# Altium integrated library Analog Devices Operational Amplifiers.IntLib: 2102 symbols (part 59 of 70)
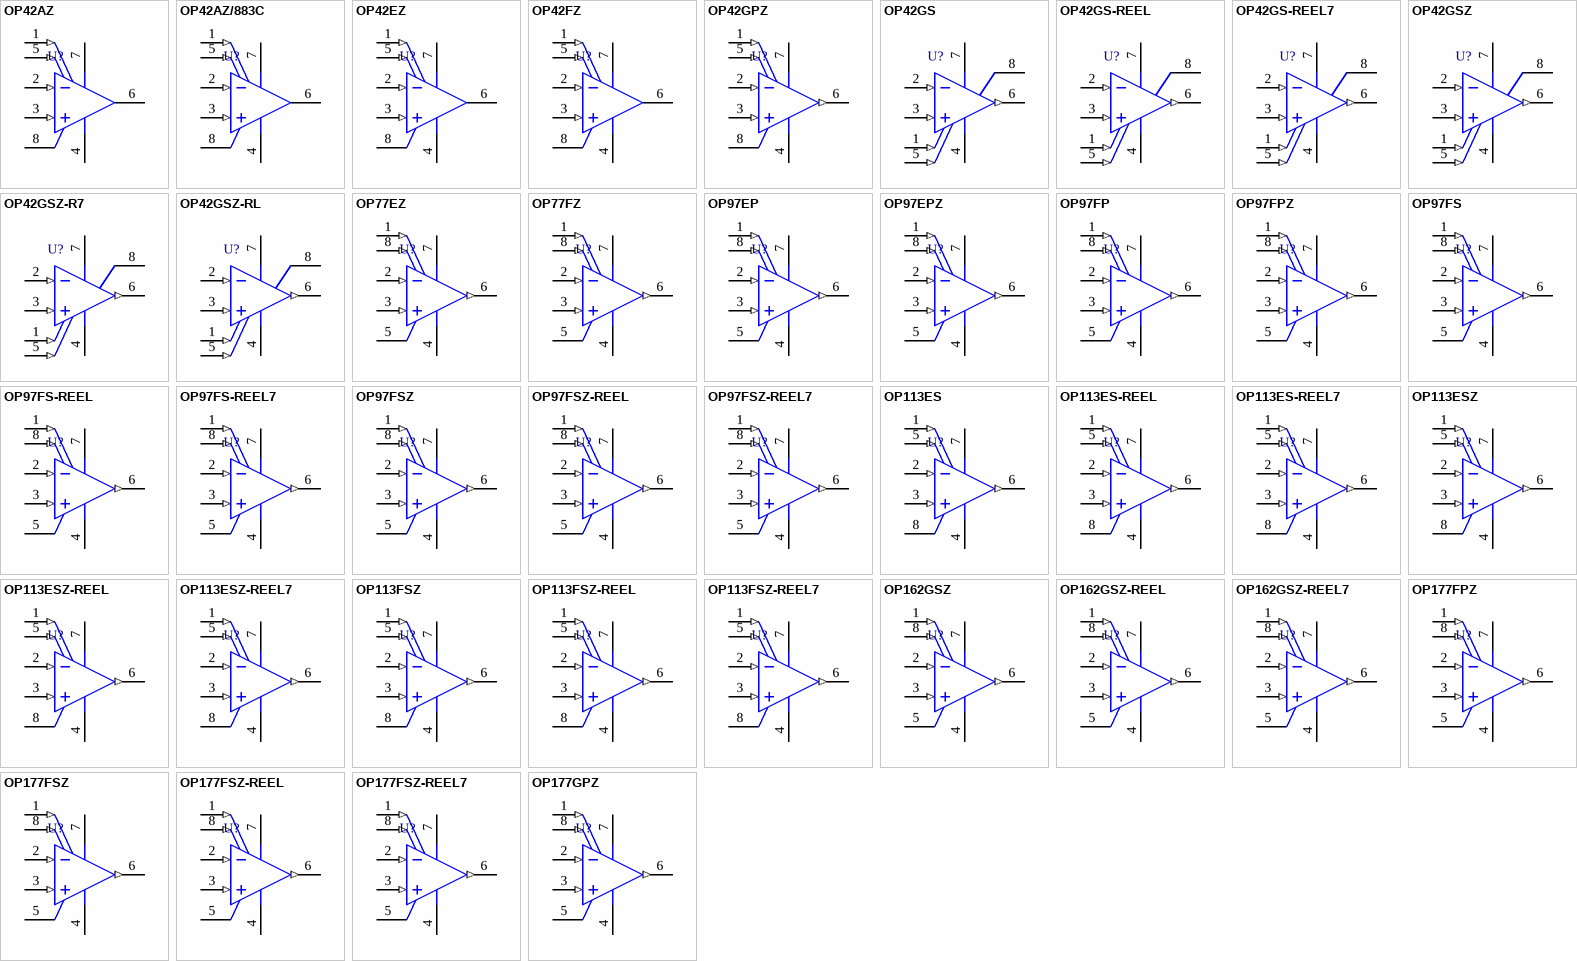
[diagram p172: symbols OP42AZ to OP177GPZ]

## OP97FS-REEL
designator U?
Single Channel Very Low Bias Current Operational Amplifier, 900 KHz BW, 200 mV/us SR, Industrial, 8-pin SOIC (R-8), Reel; Generic Part Number: OP97; Manufacturer: Analog Devices; PartNumber: OP97FS-REEL; Amplifiers Per Package: 1; Input Bias Current: 30pA; Input Offset Voltage: 30uV; Iq/Amp: 600uA; Small Signal Bandwidth: 900KHz; V Span Max: 40V; V Span Min: 4V; DatasheetVersion: Rev. G; PackageVersion: 060506-A; PackageReference: R-8; PackageDescription: 8-Pin Standard Small Outline Package, Body 3.9 x 4.9 mm, Pitch 1.27 mm; Supplier 1: Digi-Key; Supplier Part Number 1: OP97FS-REEL-ND; Supplier 2: Newark; Supplier Part Number 2: 13B4701; Packing: Reel; Slew Rate: 200mV/us; Mounting Technology: Surface Mount; Code_JEDEC: MS-012-AA; ComponentLink1Description: Manufacturer URL; ComponentLink1URL: http://www.analog.com/en/index.html; ComponentLink2Description: Datasheet; ComponentLink2URL: http://www.analog.com/static/imported-files/data_sheets/OP97.pdf; ComponentLink3Description: Package Specification; ComponentLink3URL: http://www.analog.com/static/imported-files/packages/PKG_PDF/SOIC_Narrow%20(R)/R_8.pdf
footprint ADI-R-8_N (SOIC, 8-Leads, Body 4.9x3.9mm, Pitch 1.27mm, IPC Medium Density)
footprint ADI-R-8_L (SOIC, 8-Leads, Body 4.9x3.9mm, Pitch 1.27mm, IPC High Density)
footprint ADI-R-8_M (SOIC, 8-Leads, Body 4.9x3.9mm, Pitch 1.27mm, IPC Low Density)
pins: 1 NULL (in), 2 -IN (in), 3 +IN (in), 4 -V (power), 5 OVER COMP, 6 OUT (out), 7 +V (power), 8 NULL (in)

## OP97FS-REEL7
designator U?
Single Channel Very Low Bias Current Operational Amplifier, 900 KHz BW, 200 mV/us SR, Industrial, 8-pin SOIC (R-8), Reel; Generic Part Number: OP97; Manufacturer: Analog Devices; PartNumber: OP97FS-REEL7; Amplifiers Per Package: 1; Input Bias Current: 30pA; Input Offset Voltage: 30uV; Iq/Amp: 600uA; Small Signal Bandwidth: 900KHz; V Span Max: 40V; V Span Min: 4V; DatasheetVersion: Rev. G; PackageVersion: 060506-A; PackageReference: R-8; PackageDescription: 8-Pin Standard Small Outline Package, Body 3.9 x 4.9 mm, Pitch 1.27 mm; Supplier 1: Digi-Key; Supplier Part Number 1: OP97FS-REEL7TR-ND; Supplier 2: Digi-Key; Supplier Part Number 2: OP97FS-REEL7CT-ND; Supplier 3: Digi-Key; Supplier Part Number 3: OP97FS-REEL7DKR-ND; Supplier 4: Newark; Supplier Part Number 4: 13B4702; Packing: Reel; Slew Rate: 200mV/us; Mounting Technology: Surface Mount; Code_JEDEC: MS-012-AA; ComponentLink1Description: Manufacturer URL; ComponentLink1URL: http://www.analog.com/en/index.html; ComponentLink2Description: Datasheet; ComponentLink2URL: http://www.analog.com/static/imported-files/data_sheets/OP97.pdf; ComponentLink3Description: Package Specification; ComponentLink3URL: http://www.analog.com/static/imported-files/packages/PKG_PDF/SOIC_Narrow%20(R)/R_8.pdf
footprint ADI-R-8_N (SOIC, 8-Leads, Body 4.9x3.9mm, Pitch 1.27mm, IPC Medium Density)
footprint ADI-R-8_L (SOIC, 8-Leads, Body 4.9x3.9mm, Pitch 1.27mm, IPC High Density)
footprint ADI-R-8_M (SOIC, 8-Leads, Body 4.9x3.9mm, Pitch 1.27mm, IPC Low Density)
pins: 1 NULL (in), 2 -IN (in), 3 +IN (in), 4 -V (power), 5 OVER COMP, 6 OUT (out), 7 +V (power), 8 NULL (in)

## OP97FSZ
designator U?
Single Channel Very Low Bias Current Operational Amplifier, 900 KHz BW, 200 mV/us SR, Industrial, 8-pin SOIC (R-8), Tube; Generic Part Number: OP97; Manufacturer: Analog Devices; PartNumber: OP97FSZ; Amplifiers Per Package: 1; Input Bias Current: 30pA; Input Offset Voltage: 30uV; Iq/Amp: 600uA; Small Signal Bandwidth: 900KHz; V Span Max: 40V; V Span Min: 4V; DatasheetVersion: Rev. G; PackageVersion: 060506-A; PackageReference: R-8; PackageDescription: 8-Pin Standard Small Outline Package, Body 3.9 x 4.9 mm, Pitch 1.27 mm; Supplier 1: Digi-Key; Supplier Part Number 1: OP97FSZ-ND; Supplier 2: Farnell; Supplier Part Number 2: 9426310; Supplier 3: Newark; Supplier Part Number 3: 19M1037; Packing: Tube; Slew Rate: 200mV/us; Mounting Technology: Surface Mount; Code_JEDEC: MS-012-AA; ComponentLink1Description: Manufacturer URL; ComponentLink1URL: http://www.analog.com/en/index.html; ComponentLink2Description: Datasheet; ComponentLink2URL: http://www.analog.com/static/imported-files/data_sheets/OP97.pdf; ComponentLink3Description: Package Specification; ComponentLink3URL: http://www.analog.com/static/imported-files/packages/PKG_PDF/SOIC_Narrow%20(R)/R_8.pdf
footprint ADI-R-8_N (SOIC, 8-Leads, Body 4.9x3.9mm, Pitch 1.27mm, IPC Medium Density)
footprint ADI-R-8_L (SOIC, 8-Leads, Body 4.9x3.9mm, Pitch 1.27mm, IPC High Density)
footprint ADI-R-8_M (SOIC, 8-Leads, Body 4.9x3.9mm, Pitch 1.27mm, IPC Low Density)
pins: 1 NULL (in), 2 -IN (in), 3 +IN (in), 4 -V (power), 5 OVER COMP, 6 OUT (out), 7 +V (power), 8 NULL (in)

## OP97FSZ-REEL
designator U?
Single Channel Very Low Bias Current Operational Amplifier, 900 KHz BW, 200 mV/us SR, Industrial, 8-pin SOIC (R-8), Reel; Generic Part Number: OP97; Manufacturer: Analog Devices; PartNumber: OP97FSZ-REEL; Amplifiers Per Package: 1; Input Bias Current: 30pA; Input Offset Voltage: 30uV; Iq/Amp: 600uA; Small Signal Bandwidth: 900KHz; V Span Max: 40V; V Span Min: 4V; DatasheetVersion: Rev. G; PackageVersion: 060506-A; PackageReference: R-8; PackageDescription: 8-Pin Standard Small Outline Package, Body 3.9 x 4.9 mm, Pitch 1.27 mm; Supplier 1: Digi-Key; Supplier Part Number 1: OP97FSZ-REELTR-ND; Supplier 2: Digi-Key; Supplier Part Number 2: OP97FSZ-REELCT-ND; Supplier 3: Digi-Key; Supplier Part Number 3: OP97FSZ-REELDKR-ND; Packing: Reel; Slew Rate: 200mV/us; Mounting Technology: Surface Mount; Code_JEDEC: MS-012-AA; ComponentLink1Description: Manufacturer URL; ComponentLink1URL: http://www.analog.com/en/index.html; ComponentLink2Description: Datasheet; ComponentLink2URL: http://www.analog.com/static/imported-files/data_sheets/OP97.pdf; ComponentLink3Description: Package Specification; ComponentLink3URL: http://www.analog.com/static/imported-files/packages/PKG_PDF/SOIC_Narrow%20(R)/R_8.pdf
footprint ADI-R-8_N (SOIC, 8-Leads, Body 4.9x3.9mm, Pitch 1.27mm, IPC Medium Density)
footprint ADI-R-8_L (SOIC, 8-Leads, Body 4.9x3.9mm, Pitch 1.27mm, IPC High Density)
footprint ADI-R-8_M (SOIC, 8-Leads, Body 4.9x3.9mm, Pitch 1.27mm, IPC Low Density)
pins: 1 NULL (in), 2 -IN (in), 3 +IN (in), 4 -V (power), 5 OVER COMP, 6 OUT (out), 7 +V (power), 8 NULL (in)

## OP97FSZ-REEL7
designator U?
Single Channel Very Low Bias Current Operational Amplifier, 900 KHz BW, 200 mV/us SR, Industrial, 8-pin SOIC (R-8), Reel; Generic Part Number: OP97; Manufacturer: Analog Devices; PartNumber: OP97FSZ-REEL7; Amplifiers Per Package: 1; Input Bias Current: 30pA; Input Offset Voltage: 30uV; Iq/Amp: 600uA; Small Signal Bandwidth: 900KHz; V Span Max: 40V; V Span Min: 4V; DatasheetVersion: Rev. G; PackageVersion: 060506-A; PackageReference: R-8; PackageDescription: 8-Pin Standard Small Outline Package, Body 3.9 x 4.9 mm, Pitch 1.27 mm; Supplier 1: Digi-Key; Supplier Part Number 1: OP97FSZ-REEL7TR-ND; Supplier 2: Digi-Key; Supplier Part Number 2: OP97FSZ-REEL7CT-ND; Supplier 3: Digi-Key; Supplier Part Number 3: OP97FSZ-REEL7DKR-ND; Supplier 4: Newark; Supplier Part Number 4: 88H0687; Packing: Reel; Slew Rate: 200mV/us; Mounting Technology: Surface Mount; Code_JEDEC: MS-012-AA; ComponentLink1Description: Manufacturer URL; ComponentLink1URL: http://www.analog.com/en/index.html; ComponentLink2Description: Datasheet; ComponentLink2URL: http://www.analog.com/static/imported-files/data_sheets/OP97.pdf; ComponentLink3Description: Package Specification; ComponentLink3URL: http://www.analog.com/static/imported-files/packages/PKG_PDF/SOIC_Narrow%20(R)/R_8.pdf
footprint ADI-R-8_N (SOIC, 8-Leads, Body 4.9x3.9mm, Pitch 1.27mm, IPC Medium Density)
footprint ADI-R-8_L (SOIC, 8-Leads, Body 4.9x3.9mm, Pitch 1.27mm, IPC High Density)
footprint ADI-R-8_M (SOIC, 8-Leads, Body 4.9x3.9mm, Pitch 1.27mm, IPC Low Density)
pins: 1 NULL (in), 2 -IN (in), 3 +IN (in), 4 -V (power), 5 OVER COMP, 6 OUT (out), 7 +V (power), 8 NULL (in)

## OP113ES
designator U?
Single Channel Wide Bandwidth Operational Amplifier, 3.4 MHz BW, 1.2 V/us SR, Industrial, 8-pin SOIC (R-8), Tube; Generic Part Number: OP113; Manufacturer: Analog Devices; PartNumber: OP113ES; Amplifiers Per Package: 1; Input Bias Current: 600nA; Input Offset Voltage: 150uV; Iq/Amp: 3mA; Small Signal Bandwidth: 3.4MHz; V Span Max: 36V; V Span Min: 4V; DatasheetVersion: Rev. F; PackageVersion: 060506-A; PackageReference: R-8; PackageDescription: 8-Pin Standard Small Outline Package, Body 3.9 x 4.9 mm, Pitch 1.27 mm; Supplier 1: Digi-Key; Supplier Part Number 1: OP113ES-ND; Slew Rate: 1.2V/us; Mounting Technology: Surface Mount; Code_JEDEC: MS-012-AA; ComponentLink1Description: Manufacturer URL; ComponentLink1URL: http://www.analog.com/en/index.html; ComponentLink2Description: Datasheet; ComponentLink2URL: http://www.analog.com/static/imported-files/data_sheets/OP113_213_413.pdf; ComponentLink3Description: Package Specification; ComponentLink3URL: http://www.analog.com/static/imported-files/packages/PKG_PDF/SOIC_Narrow%20(R)/R_8.pdf
footprint ADI-R-8_N (SOIC, 8-Leads, Body 4.9x3.9mm, Pitch 1.27mm, IPC Medium Density)
footprint ADI-R-8_L (SOIC, 8-Leads, Body 4.9x3.9mm, Pitch 1.27mm, IPC High Density)
footprint ADI-R-8_M (SOIC, 8-Leads, Body 4.9x3.9mm, Pitch 1.27mm, IPC Low Density)
pins: 1 NULL (in), 2 -IN A (in), 3 +IN A (in), 4 -V (power), 5 NULL (in), 6 OUT A (out), 7 +V (power), 8 NC

## OP113ES-REEL
designator U?
Single Channel Wide Bandwidth Operational Amplifier, 3.4 MHz BW, 1.2 V/us SR, Industrial, 8-pin SOIC (R-8), Reel; Generic Part Number: OP113; Manufacturer: Analog Devices; PartNumber: OP113ES-REEL; Amplifiers Per Package: 1; Input Bias Current: 600nA; Input Offset Voltage: 150uV; Iq/Amp: 3mA; Small Signal Bandwidth: 3.4MHz; V Span Max: 36V; V Span Min: 4V; DatasheetVersion: Rev. F; PackageVersion: 060506-A; PackageReference: R-8; PackageDescription: 8-Pin Standard Small Outline Package, Body 3.9 x 4.9 mm, Pitch 1.27 mm; Supplier 1: Digi-Key; Supplier Part Number 1: OP113ES-REEL-ND; Supplier 2: Newark; Supplier Part Number 2: 09B8300; Slew Rate: 1.2V/us; Mounting Technology: Surface Mount; Code_JEDEC: MS-012-AA; ComponentLink1Description: Manufacturer URL; ComponentLink1URL: http://www.analog.com/en/index.html; ComponentLink2Description: Datasheet; ComponentLink2URL: http://www.analog.com/static/imported-files/data_sheets/OP113_213_413.pdf; ComponentLink3Description: Package Specification; ComponentLink3URL: http://www.analog.com/static/imported-files/packages/PKG_PDF/SOIC_Narrow%20(R)/R_8.pdf
footprint ADI-R-8_N (SOIC, 8-Leads, Body 4.9x3.9mm, Pitch 1.27mm, IPC Medium Density)
footprint ADI-R-8_L (SOIC, 8-Leads, Body 4.9x3.9mm, Pitch 1.27mm, IPC High Density)
footprint ADI-R-8_M (SOIC, 8-Leads, Body 4.9x3.9mm, Pitch 1.27mm, IPC Low Density)
pins: 1 NULL (in), 2 -IN A (in), 3 +IN A (in), 4 -V (power), 5 NULL (in), 6 OUT A (out), 7 +V (power), 8 NC

## OP113ES-REEL7
designator U?
Single Channel Wide Bandwidth Operational Amplifier, 3.4 MHz BW, 1.2 V/us SR, Industrial, 8-pin SOIC (R-8), Reel; Generic Part Number: OP113; Manufacturer: Analog Devices; PartNumber: OP113ES-REEL7; Amplifiers Per Package: 1; Input Bias Current: 600nA; Input Offset Voltage: 150uV; Iq/Amp: 3mA; Small Signal Bandwidth: 3.4MHz; V Span Max: 36V; V Span Min: 4V; DatasheetVersion: Rev. F; PackageVersion: 060506-A; PackageReference: R-8; PackageDescription: 8-Pin Standard Small Outline Package, Body 3.9 x 4.9 mm, Pitch 1.27 mm; Supplier 1: Digi-Key; Supplier Part Number 1: OP113ES-REEL7-ND; Supplier 2: Newark; Supplier Part Number 2: 09B8301; Slew Rate: 1.2V/us; Mounting Technology: Surface Mount; Code_JEDEC: MS-012-AA; ComponentLink1Description: Manufacturer URL; ComponentLink1URL: http://www.analog.com/en/index.html; ComponentLink2Description: Datasheet; ComponentLink2URL: http://www.analog.com/static/imported-files/data_sheets/OP113_213_413.pdf; ComponentLink3Description: Package Specification; ComponentLink3URL: http://www.analog.com/static/imported-files/packages/PKG_PDF/SOIC_Narrow%20(R)/R_8.pdf
footprint ADI-R-8_N (SOIC, 8-Leads, Body 4.9x3.9mm, Pitch 1.27mm, IPC Medium Density)
footprint ADI-R-8_L (SOIC, 8-Leads, Body 4.9x3.9mm, Pitch 1.27mm, IPC High Density)
footprint ADI-R-8_M (SOIC, 8-Leads, Body 4.9x3.9mm, Pitch 1.27mm, IPC Low Density)
pins: 1 NULL (in), 2 -IN A (in), 3 +IN A (in), 4 -V (power), 5 NULL (in), 6 OUT A (out), 7 +V (power), 8 NC

## OP113ESZ
designator U?
Single Channel Wide Bandwidth Operational Amplifier, 3.4 MHz BW, 1.2 V/us SR, Industrial, 8-pin SOIC (R-8), Tube; Generic Part Number: OP113; Manufacturer: Analog Devices; PartNumber: OP113ESZ; Amplifiers Per Package: 1; Input Bias Current: 600nA; Input Offset Voltage: 150uV; Iq/Amp: 3mA; Small Signal Bandwidth: 3.4MHz; V Span Max: 36V; V Span Min: 4V; DatasheetVersion: Rev. F; PackageVersion: 060506-A; PackageReference: R-8; PackageDescription: 8-Pin Standard Small Outline Package, Body 3.9 x 4.9 mm, Pitch 1.27 mm; Supplier 1: Digi-Key; Supplier Part Number 1: OP113ESZ-ND; Supplier 2: Farnell; Supplier Part Number 2: 1311373; Supplier 3: Newark; Supplier Part Number 3: 59K8759; Slew Rate: 1.2V/us; Mounting Technology: Surface Mount; Code_JEDEC: MS-012-AA; ComponentLink1Description: Manufacturer URL; ComponentLink1URL: http://www.analog.com/en/index.html; ComponentLink2Description: Datasheet; ComponentLink2URL: http://www.analog.com/static/imported-files/data_sheets/OP113_213_413.pdf; ComponentLink3Description: Package Specification; ComponentLink3URL: http://www.analog.com/static/imported-files/packages/PKG_PDF/SOIC_Narrow%20(R)/R_8.pdf
footprint ADI-R-8_N (SOIC, 8-Leads, Body 4.9x3.9mm, Pitch 1.27mm, IPC Medium Density)
footprint ADI-R-8_L (SOIC, 8-Leads, Body 4.9x3.9mm, Pitch 1.27mm, IPC High Density)
footprint ADI-R-8_M (SOIC, 8-Leads, Body 4.9x3.9mm, Pitch 1.27mm, IPC Low Density)
pins: 1 NULL (in), 2 -IN A (in), 3 +IN A (in), 4 -V (power), 5 NULL (in), 6 OUT A (out), 7 +V (power), 8 NC

## OP113ESZ-REEL
designator U?
Single Channel Wide Bandwidth Operational Amplifier, 3.4 MHz BW, 1.2 V/us SR, Industrial, 8-pin SOIC (R-8), Reel; Generic Part Number: OP113; Manufacturer: Analog Devices; PartNumber: OP113ESZ-REEL; Amplifiers Per Package: 1; Input Bias Current: 600nA; Input Offset Voltage: 150uV; Iq/Amp: 3mA; Small Signal Bandwidth: 3.4MHz; V Span Max: 36V; V Span Min: 4V; DatasheetVersion: Rev. F; PackageVersion: 060506-A; PackageReference: R-8; PackageDescription: 8-Pin Standard Small Outline Package, Body 3.9 x 4.9 mm, Pitch 1.27 mm; Supplier 1: Digi-Key; Supplier Part Number 1: OP113ESZ-REEL-ND; Slew Rate: 1.2V/us; Mounting Technology: Surface Mount; Code_JEDEC: MS-012-AA; ComponentLink1Description: Manufacturer URL; ComponentLink1URL: http://www.analog.com/en/index.html; ComponentLink2Description: Datasheet; ComponentLink2URL: http://www.analog.com/static/imported-files/data_sheets/OP113_213_413.pdf; ComponentLink3Description: Package Specification; ComponentLink3URL: http://www.analog.com/static/imported-files/packages/PKG_PDF/SOIC_Narrow%20(R)/R_8.pdf
footprint ADI-R-8_N (SOIC, 8-Leads, Body 4.9x3.9mm, Pitch 1.27mm, IPC Medium Density)
footprint ADI-R-8_L (SOIC, 8-Leads, Body 4.9x3.9mm, Pitch 1.27mm, IPC High Density)
footprint ADI-R-8_M (SOIC, 8-Leads, Body 4.9x3.9mm, Pitch 1.27mm, IPC Low Density)
pins: 1 NULL (in), 2 -IN A (in), 3 +IN A (in), 4 -V (power), 5 NULL (in), 6 OUT A (out), 7 +V (power), 8 NC

## OP113ESZ-REEL7
designator U?
Single Channel Wide Bandwidth Operational Amplifier, 3.4 MHz BW, 1.2 V/us SR, Industrial, 8-pin SOIC (R-8), Reel; Generic Part Number: OP113; Manufacturer: Analog Devices; PartNumber: OP113ESZ-REEL7; Amplifiers Per Package: 1; Input Bias Current: 600nA; Input Offset Voltage: 150uV; Iq/Amp: 3mA; Small Signal Bandwidth: 3.4MHz; V Span Max: 36V; V Span Min: 4V; DatasheetVersion: Rev. F; PackageVersion: 060506-A; PackageReference: R-8; PackageDescription: 8-Pin Standard Small Outline Package, Body 3.9 x 4.9 mm, Pitch 1.27 mm; Supplier 1: Digi-Key; Supplier Part Number 1: OP113ESZ-REEL7TR-ND; Supplier 2: Digi-Key; Supplier Part Number 2: OP113ESZ-REEL7CT-ND; Supplier 3: Digi-Key; Supplier Part Number 3: OP113ESZ-REEL7DKR-ND; Supplier 4: Newark; Supplier Part Number 4: 59K8761; Slew Rate: 1.2V/us; Mounting Technology: Surface Mount; Code_JEDEC: MS-012-AA; ComponentLink1Description: Manufacturer URL; ComponentLink1URL: http://www.analog.com/en/index.html; ComponentLink2Description: Datasheet; ComponentLink2URL: http://www.analog.com/static/imported-files/data_sheets/OP113_213_413.pdf; ComponentLink3Description: Package Specification; ComponentLink3URL: http://www.analog.com/static/imported-files/packages/PKG_PDF/SOIC_Narrow%20(R)/R_8.pdf
footprint ADI-R-8_N (SOIC, 8-Leads, Body 4.9x3.9mm, Pitch 1.27mm, IPC Medium Density)
footprint ADI-R-8_L (SOIC, 8-Leads, Body 4.9x3.9mm, Pitch 1.27mm, IPC High Density)
footprint ADI-R-8_M (SOIC, 8-Leads, Body 4.9x3.9mm, Pitch 1.27mm, IPC Low Density)
pins: 1 NULL (in), 2 -IN A (in), 3 +IN A (in), 4 -V (power), 5 NULL (in), 6 OUT A (out), 7 +V (power), 8 NC

## OP113FSZ
designator U?
Single Channel Wide Bandwidth Operational Amplifier, 3.4 MHz BW, 1.2 V/us SR, Industrial, 8-pin SOIC (R-8), Tube; Generic Part Number: OP113; Manufacturer: Analog Devices; PartNumber: OP113FSZ; Amplifiers Per Package: 1; Input Bias Current: 600nA; Input Offset Voltage: 150uV; Iq/Amp: 3mA; Small Signal Bandwidth: 3.4MHz; V Span Max: 36V; V Span Min: 4V; DatasheetVersion: Rev. F; PackageVersion: 060506-A; PackageReference: R-8; PackageDescription: 8-Pin Standard Small Outline Package, Body 3.9 x 4.9 mm, Pitch 1.27 mm; Supplier 1: Digi-Key; Supplier Part Number 1: OP113FSZ-ND; Supplier 2: Farnell; Supplier Part Number 2: 2102503; Supplier 3: Newark; Supplier Part Number 3: 19M8975; Slew Rate: 1.2V/us; Mounting Technology: Surface Mount; Code_JEDEC: MS-012-AA; ComponentLink1Description: Manufacturer URL; ComponentLink1URL: http://www.analog.com/en/index.html; ComponentLink2Description: Datasheet; ComponentLink2URL: http://www.analog.com/static/imported-files/data_sheets/OP113_213_413.pdf; ComponentLink3Description: Package Specification; ComponentLink3URL: http://www.analog.com/static/imported-files/packages/PKG_PDF/SOIC_Narrow%20(R)/R_8.pdf
footprint ADI-R-8_N (SOIC, 8-Leads, Body 4.9x3.9mm, Pitch 1.27mm, IPC Medium Density)
footprint ADI-R-8_L (SOIC, 8-Leads, Body 4.9x3.9mm, Pitch 1.27mm, IPC High Density)
footprint ADI-R-8_M (SOIC, 8-Leads, Body 4.9x3.9mm, Pitch 1.27mm, IPC Low Density)
pins: 1 NULL (in), 2 -IN A (in), 3 +IN A (in), 4 -V (power), 5 NULL (in), 6 OUT A (out), 7 +V (power), 8 NC

## OP113FSZ-REEL
designator U?
Single Channel Wide Bandwidth Operational Amplifier, 3.4 MHz BW, 1.2 V/us SR, Industrial, 8-pin SOIC (R-8), Reel; Generic Part Number: OP113; Manufacturer: Analog Devices; PartNumber: OP113FSZ-REEL; Amplifiers Per Package: 1; Input Bias Current: 600nA; Input Offset Voltage: 150uV; Iq/Amp: 3mA; Small Signal Bandwidth: 3.4MHz; V Span Max: 36V; V Span Min: 4V; DatasheetVersion: Rev. F; PackageVersion: 060506-A; PackageReference: R-8; PackageDescription: 8-Pin Standard Small Outline Package, Body 3.9 x 4.9 mm, Pitch 1.27 mm; Supplier 1: Digi-Key; Supplier Part Number 1: OP113FSZ-REEL-ND; Slew Rate: 1.2V/us; Mounting Technology: Surface Mount; Code_JEDEC: MS-012-AA; ComponentLink1Description: Manufacturer URL; ComponentLink1URL: http://www.analog.com/en/index.html; ComponentLink2Description: Datasheet; ComponentLink2URL: http://www.analog.com/static/imported-files/data_sheets/OP113_213_413.pdf; ComponentLink3Description: Package Specification; ComponentLink3URL: http://www.analog.com/static/imported-files/packages/PKG_PDF/SOIC_Narrow%20(R)/R_8.pdf
footprint ADI-R-8_N (SOIC, 8-Leads, Body 4.9x3.9mm, Pitch 1.27mm, IPC Medium Density)
footprint ADI-R-8_L (SOIC, 8-Leads, Body 4.9x3.9mm, Pitch 1.27mm, IPC High Density)
footprint ADI-R-8_M (SOIC, 8-Leads, Body 4.9x3.9mm, Pitch 1.27mm, IPC Low Density)
pins: 1 NULL (in), 2 -IN A (in), 3 +IN A (in), 4 -V (power), 5 NULL (in), 6 OUT A (out), 7 +V (power), 8 NC

## OP113FSZ-REEL7
designator U?
Single Channel Wide Bandwidth Operational Amplifier, 3.4 MHz BW, 1.2 V/us SR, Industrial, 8-pin SOIC (R-8), Reel; Generic Part Number: OP113; Manufacturer: Analog Devices; PartNumber: OP113FSZ-REEL7; Amplifiers Per Package: 1; Input Bias Current: 600nA; Input Offset Voltage: 150uV; Iq/Amp: 3mA; Small Signal Bandwidth: 3.4MHz; V Span Max: 36V; V Span Min: 4V; DatasheetVersion: Rev. F; PackageVersion: 060506-A; PackageReference: R-8; PackageDescription: 8-Pin Standard Small Outline Package, Body 3.9 x 4.9 mm, Pitch 1.27 mm; Supplier 1: Digi-Key; Supplier Part Number 1: OP113FSZ-REEL7TR-ND; Supplier 2: Digi-Key; Supplier Part Number 2: OP113FSZ-REEL7CT-ND; Supplier 3: Digi-Key; Supplier Part Number 3: OP113FSZ-REEL7DKR-ND; Slew Rate: 1.2V/us; Mounting Technology: Surface Mount; Code_JEDEC: MS-012-AA; ComponentLink1Description: Manufacturer URL; ComponentLink1URL: http://www.analog.com/en/index.html; ComponentLink2Description: Datasheet; ComponentLink2URL: http://www.analog.com/static/imported-files/data_sheets/OP113_213_413.pdf; ComponentLink3Description: Package Specification; ComponentLink3URL: http://www.analog.com/static/imported-files/packages/PKG_PDF/SOIC_Narrow%20(R)/R_8.pdf
footprint ADI-R-8_N (SOIC, 8-Leads, Body 4.9x3.9mm, Pitch 1.27mm, IPC Medium Density)
footprint ADI-R-8_L (SOIC, 8-Leads, Body 4.9x3.9mm, Pitch 1.27mm, IPC High Density)
footprint ADI-R-8_M (SOIC, 8-Leads, Body 4.9x3.9mm, Pitch 1.27mm, IPC Low Density)
pins: 1 NULL (in), 2 -IN A (in), 3 +IN A (in), 4 -V (power), 5 NULL (in), 6 OUT A (out), 7 +V (power), 8 NC

## OP162GSZ
designator U?
Single Channel Wide Bandwidth Operational Amplifier, 15 MHz BW, 13 V/us SR, Industrial, 8-pin SOIC (R-8), Tube; Generic Part Number: OP162; Manufacturer: Analog Devices; PartNumber: OP162GSZ; Amplifiers Per Package: 1; Input Bias Current: 260nA; Input Offset Voltage: 25uV; Iq/Amp: 800uA; Slew Rate: 13V/us; Small Signal Bandwidth: 15MHz; V Span Max: 12V; V Span Min: 2.7V; DatasheetVersion: Rev. G; PackageVersion: 060506-A; PackageReference: R-8; PackageDescription: 8-Pin Standard Small Outline Package, Body 3.9 x 4.9 mm, Pitch 1.27 mm; Supplier 1: Digi-Key; Supplier Part Number 1: OP162GSZ-ND; Supplier 2: Farnell; Supplier Part Number 2: 1661001; Supplier 3: Newark; Supplier Part Number 3: 19M8977; Packing: Tube; Mounting Technology: Surface Mount; Code_JEDEC: MS-012-AA; ComponentLink1Description: Manufacturer URL; ComponentLink1URL: http://www.analog.com/en/index.html; ComponentLink2Description: Datasheet; ComponentLink2URL: http://www.analog.com/static/imported-files/data_sheets/OP162_262_462.pdf; ComponentLink3Description: Package Specification; ComponentLink3URL: http://www.analog.com/static/imported-files/packages/PKG_PDF/SOIC_Narrow%20(R)/R_8.pdf
footprint ADI-R-8_N (SOIC, 8-Leads, Body 4.9x3.9mm, Pitch 1.27mm, IPC Medium Density)
footprint ADI-R-8_L (SOIC, 8-Leads, Body 4.9x3.9mm, Pitch 1.27mm, IPC High Density)
footprint ADI-R-8_M (SOIC, 8-Leads, Body 4.9x3.9mm, Pitch 1.27mm, IPC Low Density)
pins: 1 NULL (in), 2 -IN A (in), 3 +IN A (in), 4 -V (power), 5 NC, 6 OUT A (out), 7 +V (power), 8 NULL (in)

## OP162GSZ-REEL
designator U?
Single Channel Wide Bandwidth Operational Amplifier, 15 MHz BW, 13 V/us SR, Industrial, 8-pin SOIC (R-8), Reel; Generic Part Number: OP162; Manufacturer: Analog Devices; PartNumber: OP162GSZ-REEL; Amplifiers Per Package: 1; Input Bias Current: 260nA; Input Offset Voltage: 25uV; Iq/Amp: 800uA; Slew Rate: 13V/us; Small Signal Bandwidth: 15MHz; V Span Max: 12V; V Span Min: 2.7V; DatasheetVersion: Rev. G; PackageVersion: 060506-A; PackageReference: R-8; PackageDescription: 8-Pin Standard Small Outline Package, Body 3.9 x 4.9 mm, Pitch 1.27 mm; Supplier 1: Digi-Key; Supplier Part Number 1: OP162GSZ-REEL-ND; Packing: Reel; Mounting Technology: Surface Mount; Code_JEDEC: MS-012-AA; ComponentLink1Description: Manufacturer URL; ComponentLink1URL: http://www.analog.com/en/index.html; ComponentLink2Description: Datasheet; ComponentLink2URL: http://www.analog.com/static/imported-files/data_sheets/OP162_262_462.pdf; ComponentLink3Description: Package Specification; ComponentLink3URL: http://www.analog.com/static/imported-files/packages/PKG_PDF/SOIC_Narrow%20(R)/R_8.pdf
footprint ADI-R-8_N (SOIC, 8-Leads, Body 4.9x3.9mm, Pitch 1.27mm, IPC Medium Density)
footprint ADI-R-8_L (SOIC, 8-Leads, Body 4.9x3.9mm, Pitch 1.27mm, IPC High Density)
footprint ADI-R-8_M (SOIC, 8-Leads, Body 4.9x3.9mm, Pitch 1.27mm, IPC Low Density)
pins: 1 NULL (in), 2 -IN A (in), 3 +IN A (in), 4 -V (power), 5 NC, 6 OUT A (out), 7 +V (power), 8 NULL (in)

## OP162GSZ-REEL7
designator U?
Single Channel Wide Bandwidth Operational Amplifier, 15 MHz BW, 13 V/us SR, Industrial, 8-pin SOIC (R-8), Reel; Generic Part Number: OP162; Manufacturer: Analog Devices; PartNumber: OP162GSZ-REEL7; Amplifiers Per Package: 1; Input Bias Current: 260nA; Input Offset Voltage: 25uV; Iq/Amp: 800uA; Slew Rate: 13V/us; Small Signal Bandwidth: 15MHz; V Span Max: 12V; V Span Min: 2.7V; DatasheetVersion: Rev. G; PackageVersion: 060506-A; PackageReference: R-8; PackageDescription: 8-Pin Standard Small Outline Package, Body 3.9 x 4.9 mm, Pitch 1.27 mm; Supplier 1: Digi-Key; Supplier Part Number 1: OP162GSZ-REEL7TR-ND; Supplier 2: Digi-Key; Supplier Part Number 2: OP162GSZ-REEL7CT-ND; Supplier 3: Digi-Key; Supplier Part Number 3: OP162GSZ-REEL7DKR-ND; Packing: Reel; Mounting Technology: Surface Mount; Code_JEDEC: MS-012-AA; ComponentLink1Description: Manufacturer URL; ComponentLink1URL: http://www.analog.com/en/index.html; ComponentLink2Description: Datasheet; ComponentLink2URL: http://www.analog.com/static/imported-files/data_sheets/OP162_262_462.pdf; ComponentLink3Description: Package Specification; ComponentLink3URL: http://www.analog.com/static/imported-files/packages/PKG_PDF/SOIC_Narrow%20(R)/R_8.pdf
footprint ADI-R-8_N (SOIC, 8-Leads, Body 4.9x3.9mm, Pitch 1.27mm, IPC Medium Density)
footprint ADI-R-8_L (SOIC, 8-Leads, Body 4.9x3.9mm, Pitch 1.27mm, IPC High Density)
footprint ADI-R-8_M (SOIC, 8-Leads, Body 4.9x3.9mm, Pitch 1.27mm, IPC Low Density)
pins: 1 NULL (in), 2 -IN A (in), 3 +IN A (in), 4 -V (power), 5 NC, 6 OUT A (out), 7 +V (power), 8 NULL (in)

## OP177FPZ
designator U?
Single Channel Ultra Low Offset Voltage Operational Amplifier, 600 KHz BW, 300 mV/us SR, Industrial, 8-pin DIP (N-8), Tube; Generic Part Number: OP177; Manufacturer: Analog Devices; PartNumber: OP177FPZ; Amplifiers Per Package: 1; Input Bias Current: 1.2nA; Input Offset Voltage: 10uV; Iq/Amp: 2mA; Small Signal Bandwidth: 600KHz; V Span Max: 44V; V Span Min: 6V; DatasheetVersion: Rev. G; PackageVersion: 070606-A; PackageReference: N-8; PackageDescription: 8-Pin Plastic Dual In-Line Package, Row spacing 7.62 mm, Pitch 2.54 mm; Supplier 1: Digi-Key; Supplier Part Number 1: OP177FPZ-ND; Supplier 2: Farnell; Supplier Part Number 2: 9604057; Supplier 3: Newark; Supplier Part Number 3: 59K8776; Packing: Tube; Slew Rate: 300mV/us; Mounting Technology: Through Hole; Code_JEDEC: MS-001; ComponentLink1Description: Manufacturer URL; ComponentLink1URL: http://www.analog.com/en/index.html; ComponentLink2Description: Datasheet; ComponentLink2URL: http://www.analog.com/static/imported-files/data_sheets/OP177.pdf; ComponentLink3Description: Package Specification; ComponentLink3URL: http:/www.analog.com/static/imported-files/packages/PKG_PDF/PDIP(N)/N_8.pdf; ComponentLink4Description: Reference Circuit; ComponentLink4URL: http://www.analog.com/en/all-operational-amplifiers-op-amps/operational-amplifiers-op-amps/op177/products/product.html#product-recommendations
footprint ADI-N-8 (DIP, 8-Leads, Body 9.59x6.6mm, Pitch 2.54mm)
pins: 1 VOS TRIM (in), 2 -IN (in), 3 +IN (in), 4 V- (power), 5 NC, 6 OUT (out), 7 V+ (power), 8 VOS TRIM (in)

## OP177FSZ
designator U?
Single Channel Ultra Low Offset Voltage Operational Amplifier, 600 KHz BW, 300 mV/us SR, Industrial, 8-pin SOIC (R-8), Tube; Generic Part Number: OP177; Manufacturer: Analog Devices; PartNumber: OP177FSZ; Amplifiers Per Package: 1; Input Bias Current: 1.2nA; Input Offset Voltage: 10uV; Iq/Amp: 2mA; Small Signal Bandwidth: 600KHz; V Span Max: 44V; V Span Min: 6V; DatasheetVersion: Rev. G; PackageVersion: 060506-A; PackageReference: R-8; PackageDescription: 8-Pin Standard Small Outline Package, Body 3.9 x 4.9 mm, Pitch 1.27 mm; Supplier 1: Digi-Key; Supplier Part Number 1: OP177FSZ-ND; Supplier 2: Farnell; Supplier Part Number 2: 1651309; Supplier 3: Newark; Supplier Part Number 3: 19M8978; Packing: Tube; Slew Rate: 300mV/us; Mounting Technology: Surface Mount; Code_JEDEC: MS-012-AA; ComponentLink1Description: Manufacturer URL; ComponentLink1URL: http://www.analog.com/en/index.html; ComponentLink2Description: Datasheet; ComponentLink2URL: http://www.analog.com/static/imported-files/data_sheets/OP177.pdf; ComponentLink3Description: Package Specification; ComponentLink3URL: http://www.analog.com/static/imported-files/packages/PKG_PDF/SOIC_Narrow%20(R)/R_8.pdf; ComponentLink4Description: Reference Circuit; ComponentLink4URL: http://www.analog.com/en/all-operational-amplifiers-op-amps/operational-amplifiers-op-amps/op177/products/product.html#product-recommendations
footprint ADI-R-8_N (SOIC, 8-Leads, Body 4.9x3.9mm, Pitch 1.27mm, IPC Medium Density)
footprint ADI-R-8_L (SOIC, 8-Leads, Body 4.9x3.9mm, Pitch 1.27mm, IPC High Density)
footprint ADI-R-8_M (SOIC, 8-Leads, Body 4.9x3.9mm, Pitch 1.27mm, IPC Low Density)
pins: 1 VOS TRIM (in), 2 -IN (in), 3 +IN (in), 4 V- (power), 5 NC, 6 OUT (out), 7 V+ (power), 8 VOS TRIM (in)

## OP177FSZ-REEL
designator U?
Single Channel Ultra Low Offset Voltage Operational Amplifier, 600 KHz BW, 300 mV/us SR, Industrial, 8-pin SOIC (R-8), Reel; Generic Part Number: OP177; Manufacturer: Analog Devices; PartNumber: OP177FSZ-REEL; Amplifiers Per Package: 1; Input Bias Current: 1.2nA; Input Offset Voltage: 10uV; Iq/Amp: 2mA; Small Signal Bandwidth: 600KHz; V Span Max: 44V; V Span Min: 6V; DatasheetVersion: Rev. G; PackageVersion: 060506-A; PackageReference: R-8; PackageDescription: 8-Pin Standard Small Outline Package, Body 3.9 x 4.9 mm, Pitch 1.27 mm; Supplier 1: Digi-Key; Supplier Part Number 1: OP177FSZ-REEL-ND; Packing: Reel; Slew Rate: 300mV/us; Mounting Technology: Surface Mount; Code_JEDEC: MS-012-AA; ComponentLink1Description: Manufacturer URL; ComponentLink1URL: http://www.analog.com/en/index.html; ComponentLink2Description: Datasheet; ComponentLink2URL: http://www.analog.com/static/imported-files/data_sheets/OP177.pdf; ComponentLink3Description: Package Specification; ComponentLink3URL: http://www.analog.com/static/imported-files/packages/PKG_PDF/SOIC_Narrow%20(R)/R_8.pdf; ComponentLink4Description: Reference Circuit; ComponentLink4URL: http://www.analog.com/en/all-operational-amplifiers-op-amps/operational-amplifiers-op-amps/op177/products/product.html#product-recommendations
footprint ADI-R-8_N (SOIC, 8-Leads, Body 4.9x3.9mm, Pitch 1.27mm, IPC Medium Density)
footprint ADI-R-8_L (SOIC, 8-Leads, Body 4.9x3.9mm, Pitch 1.27mm, IPC High Density)
footprint ADI-R-8_M (SOIC, 8-Leads, Body 4.9x3.9mm, Pitch 1.27mm, IPC Low Density)
pins: 1 VOS TRIM (in), 2 -IN (in), 3 +IN (in), 4 V- (power), 5 NC, 6 OUT (out), 7 V+ (power), 8 VOS TRIM (in)

## OP177FSZ-REEL7
designator U?
Single Channel Ultra Low Offset Voltage Operational Amplifier, 600 KHz BW, 300 mV/us SR, Industrial, 8-pin SOIC (R-8), Reel; Generic Part Number: OP177; Manufacturer: Analog Devices; PartNumber: OP177FSZ-REEL7; Amplifiers Per Package: 1; Input Bias Current: 1.2nA; Input Offset Voltage: 10uV; Iq/Amp: 2mA; Small Signal Bandwidth: 600KHz; V Span Max: 44V; V Span Min: 6V; DatasheetVersion: Rev. G; PackageVersion: 060506-A; PackageReference: R-8; PackageDescription: 8-Pin Standard Small Outline Package, Body 3.9 x 4.9 mm, Pitch 1.27 mm; Supplier 1: Digi-Key; Supplier Part Number 1: OP177FSZ-REEL7-ND; Packing: Reel; Slew Rate: 300mV/us; Mounting Technology: Surface Mount; Code_JEDEC: MS-012-AA; ComponentLink1Description: Manufacturer URL; ComponentLink1URL: http://www.analog.com/en/index.html; ComponentLink2Description: Datasheet; ComponentLink2URL: http://www.analog.com/static/imported-files/data_sheets/OP177.pdf; ComponentLink3Description: Package Specification; ComponentLink3URL: http://www.analog.com/static/imported-files/packages/PKG_PDF/SOIC_Narrow%20(R)/R_8.pdf; ComponentLink4Description: Reference Circuit; ComponentLink4URL: http://www.analog.com/en/all-operational-amplifiers-op-amps/operational-amplifiers-op-amps/op177/products/product.html#product-recommendations
footprint ADI-R-8_N (SOIC, 8-Leads, Body 4.9x3.9mm, Pitch 1.27mm, IPC Medium Density)
footprint ADI-R-8_L (SOIC, 8-Leads, Body 4.9x3.9mm, Pitch 1.27mm, IPC High Density)
footprint ADI-R-8_M (SOIC, 8-Leads, Body 4.9x3.9mm, Pitch 1.27mm, IPC Low Density)
pins: 1 VOS TRIM (in), 2 -IN (in), 3 +IN (in), 4 V- (power), 5 NC, 6 OUT (out), 7 V+ (power), 8 VOS TRIM (in)

## OP177GPZ
designator U?
Single Channel Ultra Low Offset Voltage Operational Amplifier, 600 KHz BW, 300 mV/us SR, Industrial, 8-pin DIP (N-8), Tube; Generic Part Number: OP177; Manufacturer: Analog Devices; PartNumber: OP177GPZ; Amplifiers Per Package: 1; Input Bias Current: 1.2nA; Input Offset Voltage: 20uV; Iq/Amp: 2mA; Small Signal Bandwidth: 600KHz; V Span Max: 44V; V Span Min: 6V; DatasheetVersion: Rev. G; PackageVersion: 070606-A; PackageReference: N-8; PackageDescription: 8-Pin Plastic Dual In-Line Package, Row spacing 7.62 mm, Pitch 2.54 mm; Supplier 1: Digi-Key; Supplier Part Number 1: OP177GPZ-ND; Supplier 2: Farnell; Supplier Part Number 2: 9604685; Supplier 3: Farnell; Supplier Part Number 3: 1523890; Supplier 4: Newark; Supplier Part Number 4: 59K8777; Packing: Tube; Slew Rate: 300mV/us; Mounting Technology: Through Hole; Code_JEDEC: MS-001; ComponentLink1Description: Manufacturer URL; ComponentLink1URL: http://www.analog.com/en/index.html; ComponentLink2Description: Datasheet; ComponentLink2URL: http://www.analog.com/static/imported-files/data_sheets/OP177.pdf; ComponentLink3Description: Package Specification; ComponentLink3URL: http:/www.analog.com/static/imported-files/packages/PKG_PDF/PDIP(N)/N_8.pdf; ComponentLink4Description: Reference Circuit; ComponentLink4URL: http://www.analog.com/en/all-operational-amplifiers-op-amps/operational-amplifiers-op-amps/op177/products/product.html#product-recommendations
footprint ADI-N-8 (DIP, 8-Leads, Body 9.59x6.6mm, Pitch 2.54mm)
pins: 1 VOS TRIM (in), 2 -IN (in), 3 +IN (in), 4 V- (power), 5 NC, 6 OUT (out), 7 V+ (power), 8 VOS TRIM (in)

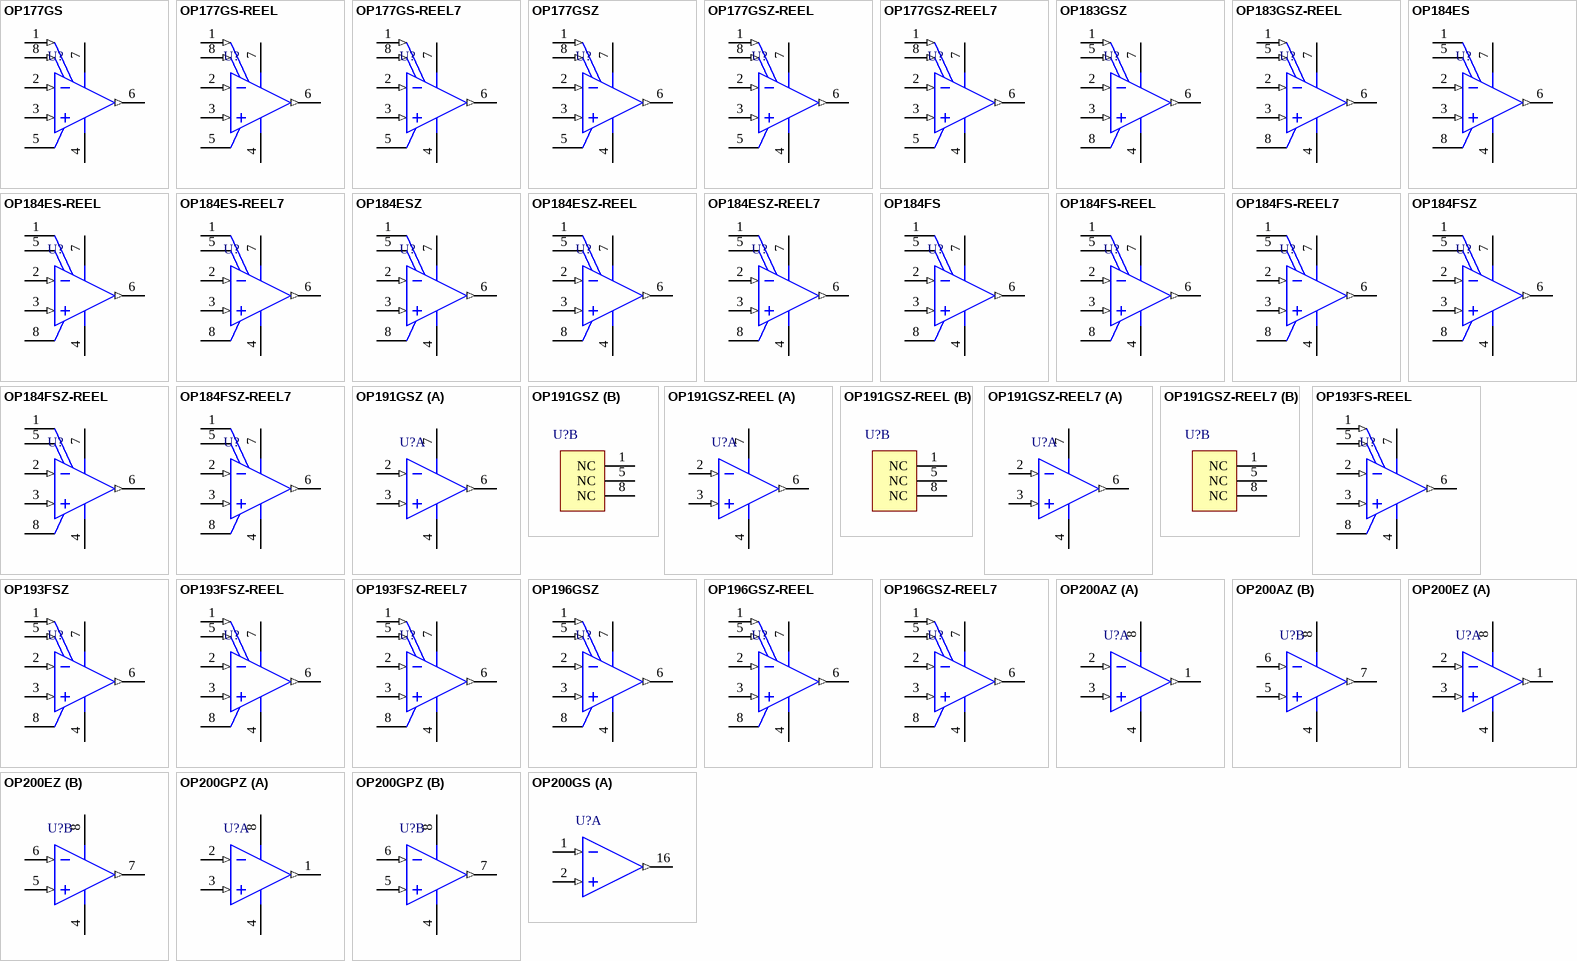
[diagram p92: symbols OP177GS to OP200GS]

## OP177GS
designator U?
Single Channel Ultra Low Offset Voltage Operational Amplifier, 600 KHz BW, 300 mV/us SR, Industrial, 8-pin SOIC (R-8), Tube; Generic Part Number: OP177; Manufacturer: Analog Devices; PartNumber: OP177GS; Amplifiers Per Package: 1; Input Bias Current: 1.2nA; Input Offset Voltage: 20uV; Iq/Amp: 2mA; Small Signal Bandwidth: 600KHz; V Span Max: 44V; V Span Min: 6V; DatasheetVersion: Rev. G; PackageVersion: 060506-A; PackageReference: R-8; PackageDescription: 8-Pin Standard Small Outline Package, Body 3.9 x 4.9 mm, Pitch 1.27 mm; Supplier 1: Digi-Key; Supplier Part Number 1: OP177GS-ND; Supplier 2: Newark; Supplier Part Number 2: 05F8535; Packing: Tube; Slew Rate: 300mV/us; Mounting Technology: Surface Mount; Code_JEDEC: MS-012-AA; ComponentLink1Description: Manufacturer URL; ComponentLink1URL: http://www.analog.com/en/index.html; ComponentLink2Description: Datasheet; ComponentLink2URL: http://www.analog.com/static/imported-files/data_sheets/OP177.pdf; ComponentLink3Description: Package Specification; ComponentLink3URL: http://www.analog.com/static/imported-files/packages/PKG_PDF/SOIC_Narrow%20(R)/R_8.pdf; ComponentLink4Description: Reference Circuit; ComponentLink4URL: http://www.analog.com/en/all-operational-amplifiers-op-amps/operational-amplifiers-op-amps/op177/products/product.html#product-recommendations
footprint ADI-R-8_N (SOIC, 8-Leads, Body 4.9x3.9mm, Pitch 1.27mm, IPC Medium Density)
footprint ADI-R-8_L (SOIC, 8-Leads, Body 4.9x3.9mm, Pitch 1.27mm, IPC High Density)
footprint ADI-R-8_M (SOIC, 8-Leads, Body 4.9x3.9mm, Pitch 1.27mm, IPC Low Density)
pins: 1 VOS TRIM (in), 2 -IN (in), 3 +IN (in), 4 V- (power), 5 NC, 6 OUT (out), 7 V+ (power), 8 VOS TRIM (in)

## OP177GS-REEL
designator U?
Single Channel Ultra Low Offset Voltage Operational Amplifier, 600 KHz BW, 300 mV/us SR, Industrial, 8-pin SOIC (R-8), Reel; Generic Part Number: OP177; Manufacturer: Analog Devices; PartNumber: OP177GS-REEL; Amplifiers Per Package: 1; Input Bias Current: 1.2nA; Input Offset Voltage: 20uV; Iq/Amp: 2mA; Small Signal Bandwidth: 600KHz; V Span Max: 44V; V Span Min: 6V; DatasheetVersion: Rev. G; PackageVersion: 060506-A; PackageReference: R-8; PackageDescription: 8-Pin Standard Small Outline Package, Body 3.9 x 4.9 mm, Pitch 1.27 mm; Supplier 1: Digi-Key; Supplier Part Number 1: OP177GS-REEL-ND; Supplier 2: Newark; Supplier Part Number 2: 09B8325; Packing: Reel; Slew Rate: 300mV/us; Mounting Technology: Surface Mount; Code_JEDEC: MS-012-AA; ComponentLink1Description: Manufacturer URL; ComponentLink1URL: http://www.analog.com/en/index.html; ComponentLink2Description: Datasheet; ComponentLink2URL: http://www.analog.com/static/imported-files/data_sheets/OP177.pdf; ComponentLink3Description: Package Specification; ComponentLink3URL: http://www.analog.com/static/imported-files/packages/PKG_PDF/SOIC_Narrow%20(R)/R_8.pdf; ComponentLink4Description: Reference Circuit; ComponentLink4URL: http://www.analog.com/en/all-operational-amplifiers-op-amps/operational-amplifiers-op-amps/op177/products/product.html#product-recommendations
footprint ADI-R-8_N (SOIC, 8-Leads, Body 4.9x3.9mm, Pitch 1.27mm, IPC Medium Density)
footprint ADI-R-8_L (SOIC, 8-Leads, Body 4.9x3.9mm, Pitch 1.27mm, IPC High Density)
footprint ADI-R-8_M (SOIC, 8-Leads, Body 4.9x3.9mm, Pitch 1.27mm, IPC Low Density)
pins: 1 VOS TRIM (in), 2 -IN (in), 3 +IN (in), 4 V- (power), 5 NC, 6 OUT (out), 7 V+ (power), 8 VOS TRIM (in)

## OP177GS-REEL7
designator U?
Single Channel Ultra Low Offset Voltage Operational Amplifier, 600 KHz BW, 300 mV/us SR, Industrial, 8-pin SOIC (R-8), Reel; Generic Part Number: OP177; Manufacturer: Analog Devices; PartNumber: OP177GS-REEL7; Amplifiers Per Package: 1; Input Bias Current: 1.2nA; Input Offset Voltage: 20uV; Iq/Amp: 2mA; Small Signal Bandwidth: 600KHz; V Span Max: 44V; V Span Min: 6V; DatasheetVersion: Rev. G; PackageVersion: 060506-A; PackageReference: R-8; PackageDescription: 8-Pin Standard Small Outline Package, Body 3.9 x 4.9 mm, Pitch 1.27 mm; Supplier 1: Digi-Key; Supplier Part Number 1: OP177GS-REEL7TR-ND; Supplier 2: Digi-Key; Supplier Part Number 2: OP177GS-REEL7CT-ND; Supplier 3: Digi-Key; Supplier Part Number 3: OP177GS-REEL7DKR-ND; Supplier 4: Newark; Supplier Part Number 4: 09B8326; Packing: Reel; Slew Rate: 300mV/us; Mounting Technology: Surface Mount; Code_JEDEC: MS-012-AA; ComponentLink1Description: Manufacturer URL; ComponentLink1URL: http://www.analog.com/en/index.html; ComponentLink2Description: Datasheet; ComponentLink2URL: http://www.analog.com/static/imported-files/data_sheets/OP177.pdf; ComponentLink3Description: Package Specification; ComponentLink3URL: http://www.analog.com/static/imported-files/packages/PKG_PDF/SOIC_Narrow%20(R)/R_8.pdf; ComponentLink4Description: Reference Circuit; ComponentLink4URL: http://www.analog.com/en/all-operational-amplifiers-op-amps/operational-amplifiers-op-amps/op177/products/product.html#product-recommendations
footprint ADI-R-8_N (SOIC, 8-Leads, Body 4.9x3.9mm, Pitch 1.27mm, IPC Medium Density)
footprint ADI-R-8_L (SOIC, 8-Leads, Body 4.9x3.9mm, Pitch 1.27mm, IPC High Density)
footprint ADI-R-8_M (SOIC, 8-Leads, Body 4.9x3.9mm, Pitch 1.27mm, IPC Low Density)
pins: 1 VOS TRIM (in), 2 -IN (in), 3 +IN (in), 4 V- (power), 5 NC, 6 OUT (out), 7 V+ (power), 8 VOS TRIM (in)

## OP177GSZ
designator U?
Single Channel Ultra Low Offset Voltage Operational Amplifier, 600 KHz BW, 300 mV/us SR, Industrial, 8-pin SOIC (R-8), Tube; Generic Part Number: OP177; Manufacturer: Analog Devices; PartNumber: OP177GSZ; Amplifiers Per Package: 1; Input Bias Current: 1.2nA; Input Offset Voltage: 20uV; Iq/Amp: 2mA; Small Signal Bandwidth: 600KHz; V Span Max: 44V; V Span Min: 6V; DatasheetVersion: Rev. G; PackageVersion: 060506-A; PackageReference: R-8; PackageDescription: 8-Pin Standard Small Outline Package, Body 3.9 x 4.9 mm, Pitch 1.27 mm; Supplier 1: Digi-Key; Supplier Part Number 1: OP177GSZ-ND; Supplier 2: Farnell; Supplier Part Number 2: 9426370; Supplier 3: Newark; Supplier Part Number 3: 19M1026; Packing: Tube; Slew Rate: 300mV/us; Mounting Technology: Surface Mount; Code_JEDEC: MS-012-AA; ComponentLink1Description: Manufacturer URL; ComponentLink1URL: http://www.analog.com/en/index.html; ComponentLink2Description: Datasheet; ComponentLink2URL: http://www.analog.com/static/imported-files/data_sheets/OP177.pdf; ComponentLink3Description: Package Specification; ComponentLink3URL: http://www.analog.com/static/imported-files/packages/PKG_PDF/SOIC_Narrow%20(R)/R_8.pdf; ComponentLink4Description: Reference Circuit; ComponentLink4URL: http://www.analog.com/en/all-operational-amplifiers-op-amps/operational-amplifiers-op-amps/op177/products/product.html#product-recommendations
footprint ADI-R-8_N (SOIC, 8-Leads, Body 4.9x3.9mm, Pitch 1.27mm, IPC Medium Density)
footprint ADI-R-8_L (SOIC, 8-Leads, Body 4.9x3.9mm, Pitch 1.27mm, IPC High Density)
footprint ADI-R-8_M (SOIC, 8-Leads, Body 4.9x3.9mm, Pitch 1.27mm, IPC Low Density)
pins: 1 VOS TRIM (in), 2 -IN (in), 3 +IN (in), 4 V- (power), 5 NC, 6 OUT (out), 7 V+ (power), 8 VOS TRIM (in)

## OP177GSZ-REEL
designator U?
Single Channel Ultra Low Offset Voltage Operational Amplifier, 600 KHz BW, 300 mV/us SR, Industrial, 8-pin SOIC (R-8), Reel; Generic Part Number: OP177; Manufacturer: Analog Devices; PartNumber: OP177GSZ-REEL; Amplifiers Per Package: 1; Input Bias Current: 1.2nA; Input Offset Voltage: 20uV; Iq/Amp: 2mA; Small Signal Bandwidth: 600KHz; V Span Max: 44V; V Span Min: 6V; DatasheetVersion: Rev. G; PackageVersion: 060506-A; PackageReference: R-8; PackageDescription: 8-Pin Standard Small Outline Package, Body 3.9 x 4.9 mm, Pitch 1.27 mm; Supplier 1: Digi-Key; Supplier Part Number 1: OP177GSZ-REELTR-ND; Supplier 2: Digi-Key; Supplier Part Number 2: OP177GSZ-REELCT-ND; Supplier 3: Digi-Key; Supplier Part Number 3: OP177GSZ-REELDKR-ND; Supplier 4: Newark; Supplier Part Number 4: 88H0656; Packing: Reel; Slew Rate: 300mV/us; Mounting Technology: Surface Mount; Code_JEDEC: MS-012-AA; ComponentLink1Description: Manufacturer URL; ComponentLink1URL: http://www.analog.com/en/index.html; ComponentLink2Description: Datasheet; ComponentLink2URL: http://www.analog.com/static/imported-files/data_sheets/OP177.pdf; ComponentLink3Description: Package Specification; ComponentLink3URL: http://www.analog.com/static/imported-files/packages/PKG_PDF/SOIC_Narrow%20(R)/R_8.pdf; ComponentLink4Description: Reference Circuit; ComponentLink4URL: http://www.analog.com/en/all-operational-amplifiers-op-amps/operational-amplifiers-op-amps/op177/products/product.html#product-recommendations
footprint ADI-R-8_N (SOIC, 8-Leads, Body 4.9x3.9mm, Pitch 1.27mm, IPC Medium Density)
footprint ADI-R-8_L (SOIC, 8-Leads, Body 4.9x3.9mm, Pitch 1.27mm, IPC High Density)
footprint ADI-R-8_M (SOIC, 8-Leads, Body 4.9x3.9mm, Pitch 1.27mm, IPC Low Density)
pins: 1 VOS TRIM (in), 2 -IN (in), 3 +IN (in), 4 V- (power), 5 NC, 6 OUT (out), 7 V+ (power), 8 VOS TRIM (in)

## OP177GSZ-REEL7
designator U?
Single Channel Ultra Low Offset Voltage Operational Amplifier, 600 KHz BW, 300 mV/us SR, Industrial, 8-pin SOIC (R-8), Reel; Generic Part Number: OP177; Manufacturer: Analog Devices; PartNumber: OP177GSZ-REEL7; Amplifiers Per Package: 1; Input Bias Current: 1.2nA; Input Offset Voltage: 20uV; Iq/Amp: 2mA; Small Signal Bandwidth: 600KHz; V Span Max: 44V; V Span Min: 6V; DatasheetVersion: Rev. G; PackageVersion: 060506-A; PackageReference: R-8; PackageDescription: 8-Pin Standard Small Outline Package, Body 3.9 x 4.9 mm, Pitch 1.27 mm; Supplier 1: Digi-Key; Supplier Part Number 1: OP177GSZ-REEL7TR-ND; Supplier 2: Digi-Key; Supplier Part Number 2: OP177GSZ-REEL7CT-ND; Supplier 3: Digi-Key; Supplier Part Number 3: OP177GSZ-REEL7DKR-ND; Supplier 4: Newark; Supplier Part Number 4: 88H0657; Packing: Reel; Slew Rate: 300mV/us; Mounting Technology: Surface Mount; Code_JEDEC: MS-012-AA; ComponentLink1Description: Manufacturer URL; ComponentLink1URL: http://www.analog.com/en/index.html; ComponentLink2Description: Datasheet; ComponentLink2URL: http://www.analog.com/static/imported-files/data_sheets/OP177.pdf; ComponentLink3Description: Package Specification; ComponentLink3URL: http://www.analog.com/static/imported-files/packages/PKG_PDF/SOIC_Narrow%20(R)/R_8.pdf; ComponentLink4Description: Reference Circuit; ComponentLink4URL: http://www.analog.com/en/all-operational-amplifiers-op-amps/operational-amplifiers-op-amps/op177/products/product.html#product-recommendations
footprint ADI-R-8_N (SOIC, 8-Leads, Body 4.9x3.9mm, Pitch 1.27mm, IPC Medium Density)
footprint ADI-R-8_L (SOIC, 8-Leads, Body 4.9x3.9mm, Pitch 1.27mm, IPC High Density)
footprint ADI-R-8_M (SOIC, 8-Leads, Body 4.9x3.9mm, Pitch 1.27mm, IPC Low Density)
pins: 1 VOS TRIM (in), 2 -IN (in), 3 +IN (in), 4 V- (power), 5 NC, 6 OUT (out), 7 V+ (power), 8 VOS TRIM (in)

## OP183GSZ
designator U?
Single Channel Wide Bandwidth Operational Amplifier, 5 MHz BW, 15 V/us SR, 8-pin SOIC (R-8), Tube; Generic Part Number: OP183; Manufacturer: Analog Devices; PartNumber: OP183GSZ; Amplifiers Per Package: 1; Input Bias Current: 300nA; Input Offset Voltage: 100uV; Iq/Amp: 1.75mA; Slew Rate: 15V/us; Small Signal Bandwidth: 5MHz; V Span Max: 36V; V Span Min: 5V; DatasheetVersion: Rev. D; PackageVersion: 060506-A; PackageReference: R-8; PackageDescription: 8-Pin Standard Small Outline Package, Body 3.9 x 4.9 mm, Pitch 1.27 mm; Supplier 1: Digi-Key; Supplier Part Number 1: OP183GSZ-ND; Supplier 2: Newark; Supplier Part Number 2: 88H0658; Mounting Technology: Surface Mount; Code_JEDEC: MS-012-AA; ComponentLink1Description: Manufacturer URL; ComponentLink1URL: http://www.analog.com/en/index.html; ComponentLink2Description: Datasheet; ComponentLink2URL: http://www.analog.com/static/imported-files/data_sheets/OP183.pdf; ComponentLink3Description: Package Specification; ComponentLink3URL: http://www.analog.com/static/imported-files/packages/PKG_PDF/SOIC_Narrow%20(R)/R_8.pdf
footprint ADI-R-8_N (SOIC, 8-Leads, Body 4.9x3.9mm, Pitch 1.27mm, IPC Medium Density)
footprint ADI-R-8_L (SOIC, 8-Leads, Body 4.9x3.9mm, Pitch 1.27mm, IPC High Density)
footprint ADI-R-8_M (SOIC, 8-Leads, Body 4.9x3.9mm, Pitch 1.27mm, IPC Low Density)
pins: 1 NULL (in), 2 -IN (in), 3 +IN (in), 4 -V (power), 5 NULL (in), 6 OUT (out), 7 +V (power), 8 NC

## OP183GSZ-REEL
designator U?
Single Channel Wide Bandwidth Operational Amplifier, 5 MHz BW, 15 V/us SR, 8-pin SOIC (R-8), Reel; Generic Part Number: OP183; Manufacturer: Analog Devices; PartNumber: OP183GSZ-REEL; Amplifiers Per Package: 1; Input Bias Current: 300nA; Input Offset Voltage: 100uV; Iq/Amp: 1.75mA; Slew Rate: 15V/us; Small Signal Bandwidth: 5MHz; V Span Max: 36V; V Span Min: 5V; DatasheetVersion: Rev. D; PackageVersion: 060506-A; PackageReference: R-8; PackageDescription: 8-Pin Standard Small Outline Package, Body 3.9 x 4.9 mm, Pitch 1.27 mm; Supplier 1: Digi-Key; Supplier Part Number 1: OP183GSZ-REEL-ND; Mounting Technology: Surface Mount; Code_JEDEC: MS-012-AA; ComponentLink1Description: Manufacturer URL; ComponentLink1URL: http://www.analog.com/en/index.html; ComponentLink2Description: Datasheet; ComponentLink2URL: http://www.analog.com/static/imported-files/data_sheets/OP183.pdf; ComponentLink3Description: Package Specification; ComponentLink3URL: http://www.analog.com/static/imported-files/packages/PKG_PDF/SOIC_Narrow%20(R)/R_8.pdf
footprint ADI-R-8_N (SOIC, 8-Leads, Body 4.9x3.9mm, Pitch 1.27mm, IPC Medium Density)
footprint ADI-R-8_L (SOIC, 8-Leads, Body 4.9x3.9mm, Pitch 1.27mm, IPC High Density)
footprint ADI-R-8_M (SOIC, 8-Leads, Body 4.9x3.9mm, Pitch 1.27mm, IPC Low Density)
pins: 1 NULL (in), 2 -IN (in), 3 +IN (in), 4 -V (power), 5 NULL (in), 6 OUT (out), 7 +V (power), 8 NC